# EAGLE library part LM2931 (library selfmade)
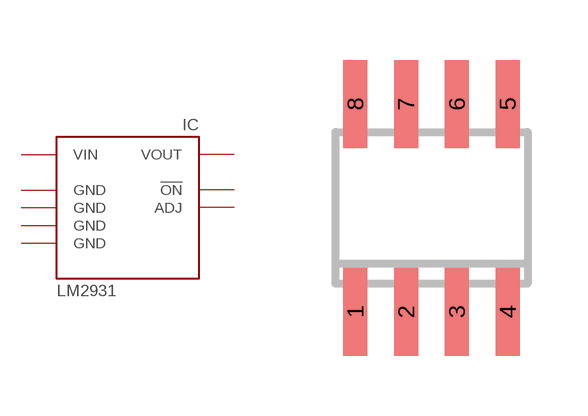
[diagram p15: symbol with the pads of SO8; footprint SO8]

Designator prefix IC

## LM2931  [SO8]
1  VOUT  pwr
2  GND  pwr
3  GND  pwr
4  ADJ
5  !ON
6  GND  pwr
7  GND  pwr
8  VIN  pwr

## Footprint SO8 (pad centres in mm)
SMALL OUTLINE INTEGRATED CIRCUIT
smd 0.6 x 2.2: 1 -1.905,-2.6; 2 -0.635,-2.6; 3 0.635,-2.6; 4 1.905,-2.6; 5 1.905,2.6; 6 0.635,2.6; 7 -0.635,2.6; 8 -1.905,2.6